# EAGLE library part LM2597 (library ads4)
150 kHz 0.5A Step-Down Voltage Regulator
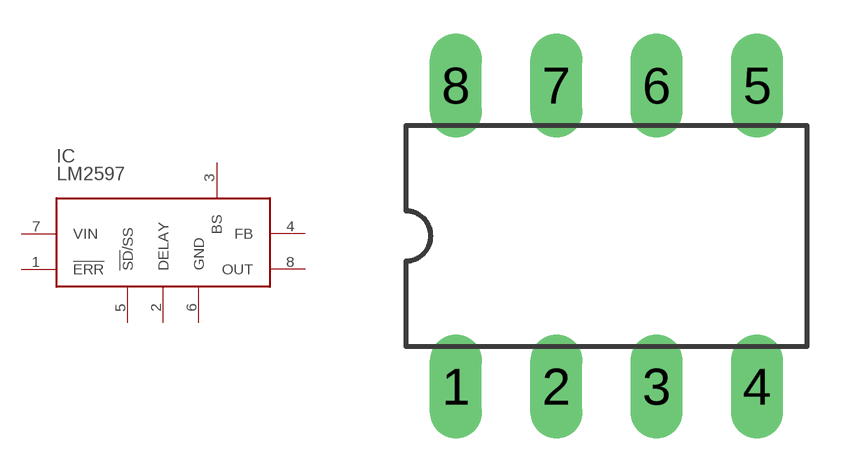
[diagram p0: symbol with the pads of DIL08; footprint DIL08]

Designator prefix IC

## LM2597N  [DIL08]
1  !ERR  oc
2  DELAY  pas
3  BS  pas
4  FB  pas
5  !SD!/SS  pas
6  GND  pas
7  VIN  pas
8  OUT  pas

## Footprint DIL08 (pad centres in mm)
8-pin Dual-In Line (copied from 74xx-us.lbr)
drill 0.813 long: 1 -3.81,-3.81; 2 -1.27,-3.81; 3 1.27,-3.81; 4 3.81,-3.81; 5 3.81,3.81; 6 1.27,3.81; 7 -1.27,3.81; 8 -3.81,3.81